# Altium footprint library myComponents.PcbLib: 20 footprints (part 2 of 2)
Each footprint in its own frame and in the unit in brackets; x right, y up, seen from the top. Pads: shape width x height; smd on the part's side, far side on the other; paste and mask are expansions set on the pad; w line width, h text height; cw(c..) or ccw(c..) is an arc to the next point about the centre after c.
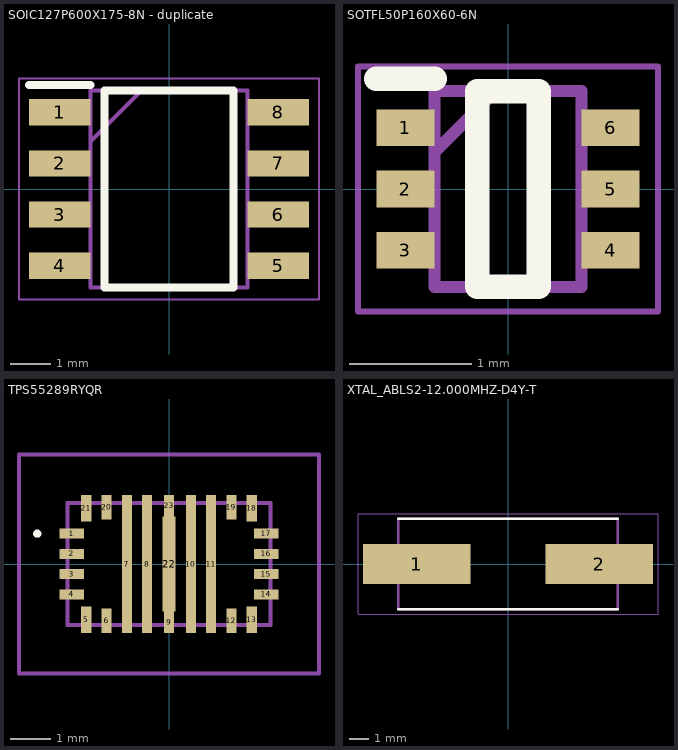
[diagram p1: the footprints below, top view; thin cyan lines are the x and y axes]

## SOIC127P600X175-8N - duplicate [mm]
pads (8):
  rect 1.525x0.65 smd: 1(-2.712,1.905) 2(-2.712,0.635) 3(-2.712,-0.635) 4(-2.712,-1.905) 5(2.712,-1.905) 6(2.712,-0.635) 7(2.712,0.635) 8(2.712,1.905)
Top Overlay:
  lines w0.2: -3.475,2.58 -1.95,2.58 ; -1.6,-2.45 1.6,-2.45 1.6,2.45 -1.6,2.45 -1.6,-2.45
Mechanical 13:
  lines w0.1: -1.95,1.18 -0.68,2.45 ; -1.95,-2.45 1.95,-2.45 1.95,2.45 -1.95,2.45 -1.95,-2.45
Mechanical 15:
  lines w0.05: -3.725,-2.75 3.725,-2.75 3.725,2.75 -3.725,2.75 -3.725,-2.75
3D body "NE555DR.stp": height 1.75, standoff 0, extent -3,-2.45 3,2.45

## SOTFL50P160X60-6N [mm]
pads (6):
  rect 0.475x0.3 smd: 1(-0.838,0.5) 2(-0.838,0) 3(-0.838,-0.5) 4(0.838,-0.5) 5(0.838,0) 6(0.838,0.5)
Top Overlay:
  lines w0.2: -1.075,0.9 -0.6,0.9 ; -0.25,-0.8 0.25,-0.8 0.25,0.8 -0.25,0.8 -0.25,-0.8
Mechanical 13:
  lines w0.1: -0.6,0.3 -0.1,0.8 ; -0.6,-0.8 0.6,-0.8 0.6,0.8 -0.6,0.8 -0.6,-0.8
Mechanical 15:
  lines w0.05: -1.225,-1 1.225,-1 1.225,1 -1.225,1 -1.225,-1
3D body "TPS564257DRLR.stp": height 0.6, standoff 0, extent -0.8,-0.78 0.8,0.82

## TPS55289RYQR [mm]
pads (23):
  rect 0.6x0.25 smd: 1(-2.4,0.75) 2(-2.4,0.25) 3(-2.4,-0.25) 4(-2.4,-0.75) 14(2.4,-0.75) 15(2.4,-0.25) 16(2.4,0.25) 17(2.4,0.75)
  rect 0.25x0.65 smd: 5(-2.04,-1.375) 13(2.04,-1.375) 18(2.04,1.375) 21(-2.04,1.375)
  rect 0.25x0.6 smd: 6(-1.54,-1.4) 12(1.54,-1.4) 19(1.54,1.4) 20(-1.54,1.4)
  rect 0.25x3.4 smd: 7(-1.04,0) 8(-0.54,0) 10(0.54,0) 11(1.04,0)
  rect 0.25x0.525 smd: 9(0,-1.438) 23(0,1.438)
  rect 0.33x2.35 smd: 22(0,0)
Top Overlay:
  lines w0.1: -3.3,0.75 cw(c-3.25,0.75) -3.2,0.75 cw(c-3.25,0.75) -3.3,0.75
Mechanical 13:
  lines w0.1: -2.5,-1.5 -2.5,1.5 2.5,1.5 2.5,-1.5 -2.5,-1.5
Mechanical 15:
  lines w0.1: -3.7,-2.7 -3.7,2.7 3.7,2.7 3.7,-2.7 -3.7,-2.7
3D body "TPS55289RYQR.stp": height 1, standoff 0, extent -2.5,-1.5 2.5,1.5

## XTAL_ABLS2-12.000MHZ-D4Y-T [mm]
height 3.3
pads (2):
  rect 5.6x2.1 smd: 1(-4.75,0) 2(4.75,0)
Top Overlay:
  lines w0.127: -5.7,-2.35 5.7,-2.35 ; -5.7,2.35 5.7,2.35
Mechanical 13:
  lines w0.127: -5.7,-2.35 -5.7,2.35 5.7,2.35 5.7,-2.35 -5.7,-2.35
Mechanical 15:
  lines w0.05: -7.8,-2.6 -7.8,2.6 7.8,2.6 7.8,-2.6 -7.8,-2.6
3D body "step_temp.STEP": height 3.16, standoff -0.1, extent -6.35,-2.349 6.35,2.349